# EAGLE library part XR-2942J (library exar)
Fax/Data MICROCONTROLLER
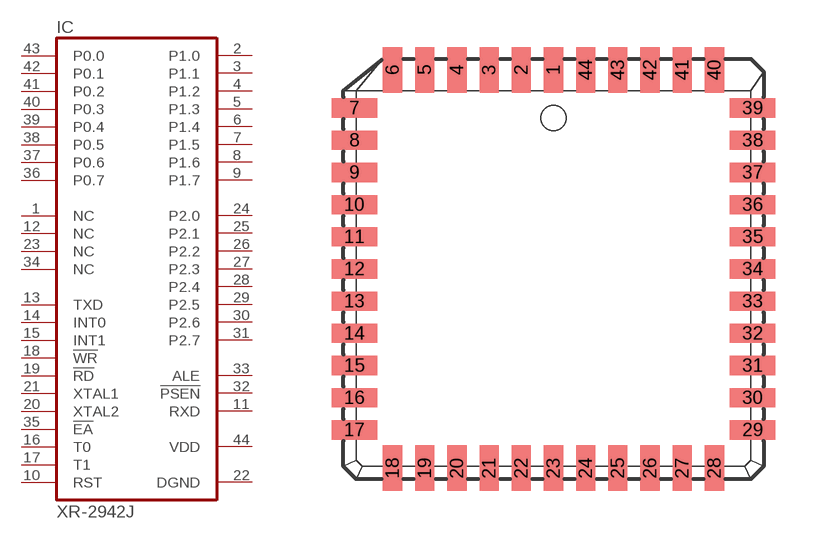
[diagram p32: symbol with the pads of PLCC44; footprint PLCC44]

Designator prefix IC

## XR-2942J (OC_FARNELL: unknown; OC_NEWARK: unknown)  [PLCC44]
1  NC  nc
2  P1.0
3  P1.1
4  P1.2
5  P1.3
6  P1.4
7  P1.5
8  P1.6
9  P1.7
10  RST  in
11  RXD  out
12  NC  nc
13  TXD  in
14  INT0  in
15  INT1  in
16  T0  in
17  T1  in
18  !WR  in
19  !RD  in
20  XTAL2  in
21  XTAL1  in
22  DGND  pwr
23  NC  nc
24  P2.0
25  P2.1
26  P2.2
27  P2.3
28  P2.4
29  P2.5
30  P2.6
31  P2.7
32  !PSEN  out
33  ALE  out
34  NC  nc
35  !EA  in
36  P0.7
37  P0.6
38  P0.5
39  P0.4
40  P0.3
41  P0.2
42  P0.1
43  P0.0
44  VDD  pwr

## Footprint PLCC44 (pad centres in mm)
Plastic Leaded Chip Carrier
smd 0.76 x 1.8: 1 0,7.86; 2 -1.27,7.86; 3 -2.54,7.86; 4 -3.81,7.86; 5 -5.08,7.86; 6 -6.35,7.86; 18 -6.35,-7.86; 19 -5.08,-7.86; 20 -3.81,-7.86; 21 -2.54,-7.86; 22 -1.27,-7.86; 23 0,-7.86; 24 1.27,-7.86; 25 2.54,-7.86; 26 3.81,-7.86; 27 5.08,-7.86; 28 6.35,-7.86; 40 6.35,7.86; 41 5.08,7.86; 42 3.81,7.86; 43 2.54,7.86; 44 1.27,7.86
smd 1.8 x 0.76: 7 -7.86,6.35; 8 -7.86,5.08; 9 -7.86,3.81; 10 -7.86,2.54; 11 -7.86,1.27; 12 -7.86,0; 13 -7.86,-1.27; 14 -7.86,-2.54; 15 -7.86,-3.81; 16 -7.86,-5.08; 17 -7.86,-6.35; 29 7.86,-6.35; 30 7.86,-5.08; 31 7.86,-3.81; 32 7.86,-2.54; 33 7.86,-1.27; 34 7.86,0; 35 7.86,1.27; 36 7.86,2.54; 37 7.86,3.81; 38 7.86,5.08; 39 7.86,6.35